# Altium schematic symbol library Schlib3.SchLib: 13 symbols
Pins are listed as number, name and electrical type; pins without a type are passive.

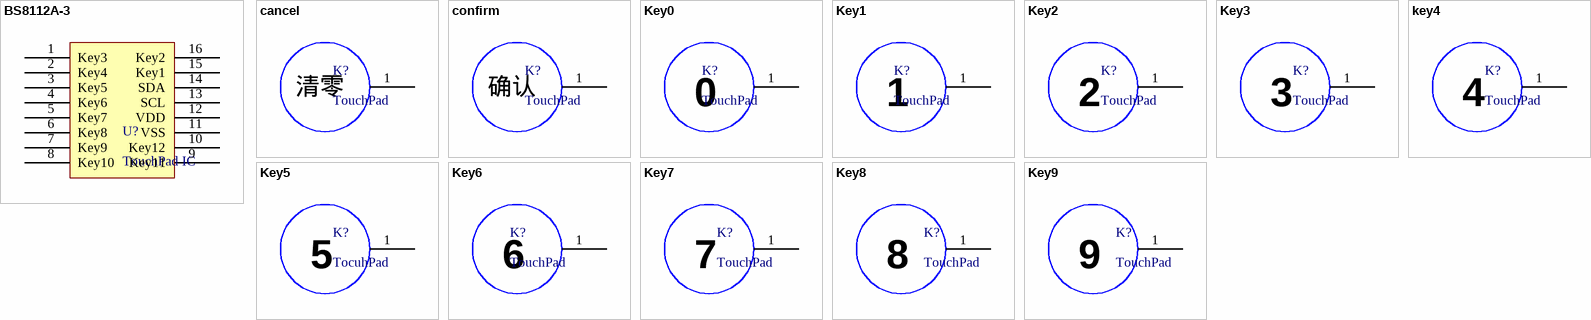
[diagram p0: symbols BS8112A-3 to Key9]

## BS8112A-3
designator U?, comment TouchPad IC
footprint SOP127P600X175-16N (SOP, 16-Leads, Body 9.90x3.90mm, Pitch 1.27mm, IPC Medium Density)
pins: 1 Key3, 2 Key4, 3 Key5, 4 Key6, 5 Key7, 6 Key8, 7 Key9, 8 Key10, 9 Key11, 10 Key12, 11 VSS, 12 VDD, 13 SCL, 14 SDA, 15 Key1, 16 Key2

## cancel
designator K?, comment TouchPad
footprint concel
pins: 1
text: 清零

## confirm
designator K?, comment TouchPad
footprint confirm
pins: 1
text: 确认

## Key0
designator K?, comment TouchPad
footprint KEY0
pins: 1
text: 0

## Key1
designator K?, comment TouchPad
footprint Key1
pins: 1

## Key2
designator K?, comment TouchPad
footprint KEY2
pins: 1
text: 2

## Key3
designator K?, comment TouchPad
footprint KEY3
pins: 1
text: 3

## key4
designator K?, comment TouchPad
footprint KEY4
pins: 1
text: 4

## Key5
designator K?, comment TocuhPad
footprint KEY5
pins: 1
text: 5

## Key6
designator K?, comment TouchPad
footprint KEY6
pins: 1
text: 6

## Key7
designator K?, comment TouchPad
footprint KEY7
pins: 1
text: 7

## Key8
designator K?, comment TouchPad
footprint KEY8
pins: 1
text: 8

## Key9
designator K?, comment TouchPad
footprint KEY9
pins: 1
text: 9